# Altium schematic symbol library Landzo.SchLib: 5 symbols
Pins are listed as number, name and electrical type; pins without a type are passive.

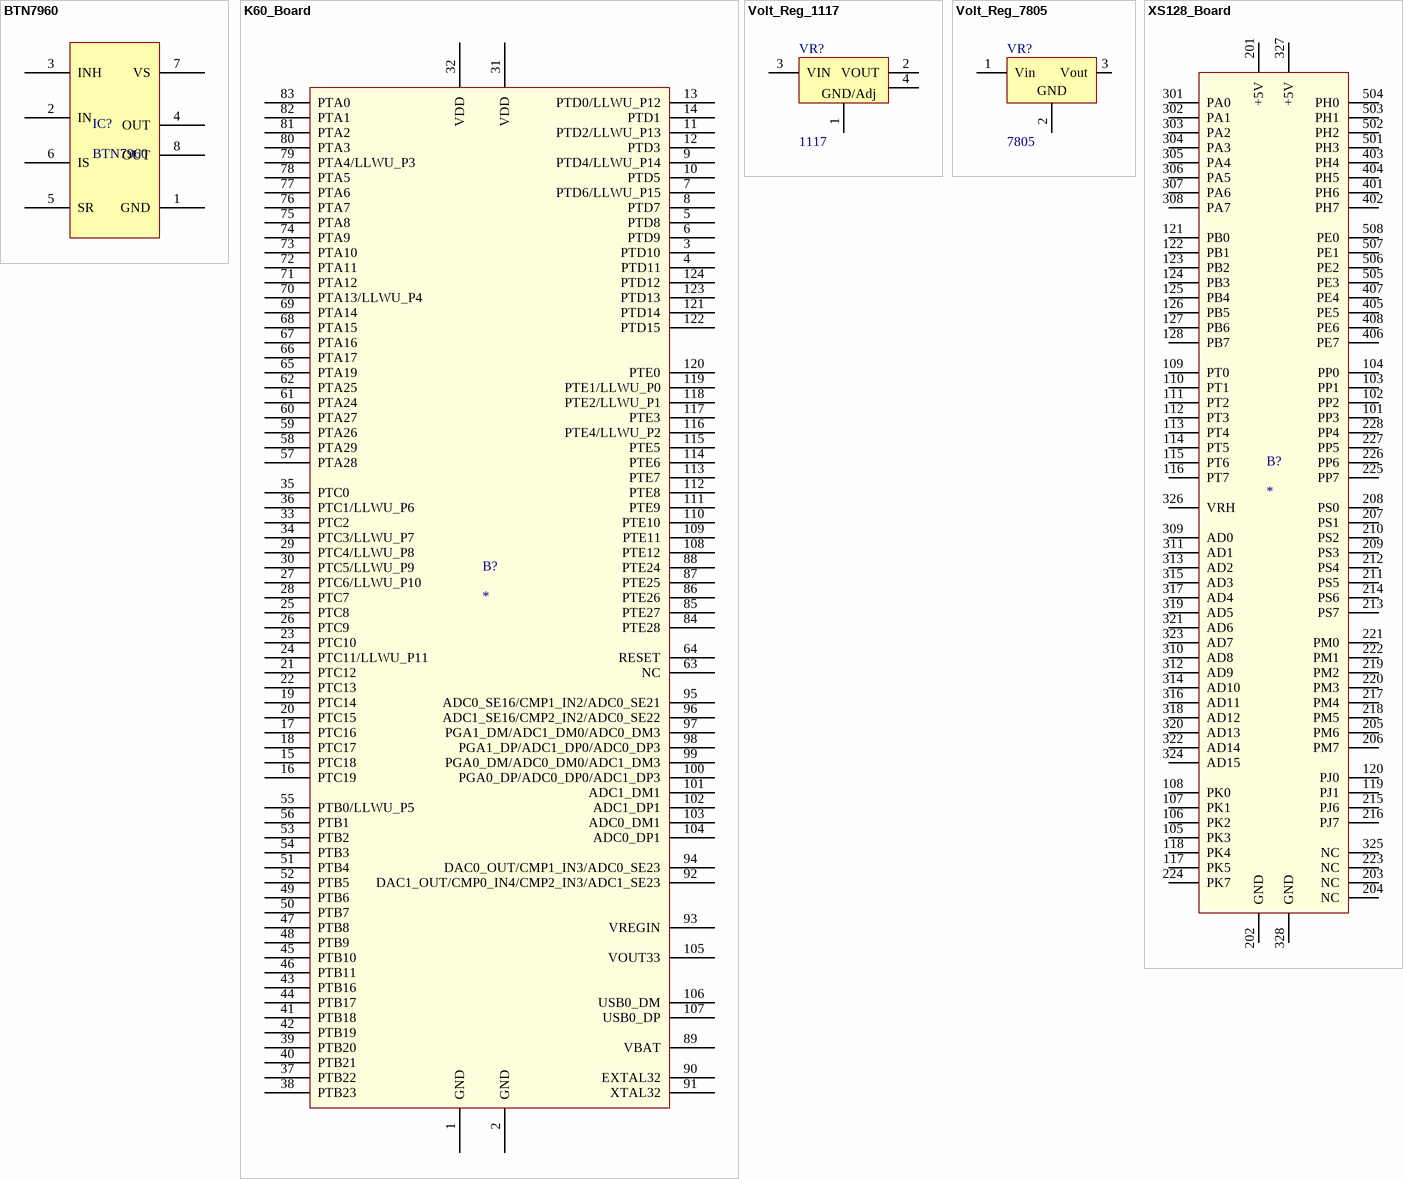
[diagram p0: symbols BTN7960 to XS128_Board]

## BTN7960
designator IC?
pins: 1 GND, 2 IN, 3 INH, 4 OUT, 5 SR, 6 IS, 7 VS, 8 OUT

## K60_Board
designator B?
K60_Board
pins: 1 GND, 2 GND, 3 PTD10, 4 PTD11, 5 PTD8, 6 PTD9, 7 PTD6/LLWU_P15, 8 PTD7, 9 PTD4/LLWU_P14, 10 PTD5, 11 PTD2/LLWU_P13, 12 PTD3, 13 PTD0/LLWU_P12, 14 PTD1, 15 PTC18, 16 PTC19, 17 PTC16, 18 PTC17, 19 PTC14, 20 PTC15, 21 PTC12, 22 PTC13, 23 PTC10, 24 PTC11/LLWU_P11, 25 PTC8, 26 PTC9, 27 PTC6/LLWU_P10, 28 PTC7, 29 PTC4/LLWU_P8, 30 PTC5/LLWU_P9, 31 VDD, 32 VDD, 33 PTC2, 34 PTC3/LLWU_P7, 35 PTC0, 36 PTC1/LLWU_P6, 37 PTB22, 38 PTB23, 39 PTB20, 40 PTB21, 41 PTB18, 42 PTB19, 43 PTB16, 44 PTB17, 45 PTB10, 46 PTB11, 47 PTB8, 48 PTB9, 49 PTB6, 50 PTB7, 51 PTB4, 52 PTB5, 53 PTB2, 54 PTB3, 55 PTB0/LLWU_P5, 56 PTB1, 57 PTA28, 58 PTA29, 59 PTA26, 60 PTA27, 61 PTA24, 62 PTA25, 63 NC, 64 RESET, 65 PTA19, 66 PTA17, 67 PTA16, 68 PTA15, 69 PTA14, 70 PTA13/LLWU_P4, 71 PTA12, 72 PTA11, 73 PTA10, 74 PTA9, 75 PTA8, 76 PTA7, 77 PTA6, 78 PTA5, 79 PTA4/LLWU_P3, 80 PTA3, 81 PTA2, 82 PTA1, 83 PTA0, 84 PTE28, 85 PTE27, 86 PTE26, 87 PTE25, 88 PTE24, 89 VBAT, 90 EXTAL32, 91 XTAL32, 92 DAC1_OUT/CMP0_IN4/CMP2_IN3/ADC1_SE23, 93 VREGIN, 94 DAC0_OUT/CMP1_IN3/ADC0_SE23, 95 ADC0_SE16/CMP1_IN2/ADC0_SE21, 96 ADC1_SE16/CMP2_IN2/ADC0_SE22, 97 PGA1_DM/ADC1_DM0/ADC0_DM3, 98 PGA1_DP/ADC1_DP0/ADC0_DP3, 99 PGA0_DM/ADC0_DM0/ADC1_DM3, 100 PGA0_DP/ADC0_DP0/ADC1_DP3, 101 ADC1_DM1, 102 ADC1_DP1, 103 ADC0_DM1, 104 ADC0_DP1, 105 VOUT33, 106 USB0_DM, 107 USB0_DP, 108 PTE12, 109 PTE11, 110 PTE10, 111 PTE9, 112 PTE8, 113 PTE7, 114 PTE6, 115 PTE5, 116 PTE4/LLWU_P2, 117 PTE3, 118 PTE2/LLWU_P1, 119 PTE1/LLWU_P0, 120 PTE0, 121 PTD14, 122 PTD15, 123 PTD13, 124 PTD12

## Volt_Reg_1117
designator VR?, comment 1117
Voltage Regulator
pins: 1 GND/Adj, 2 VOUT, 3 VIN, 4 VOUT

## Volt_Reg_7805
designator VR?, comment 7805
Voltage Regulator
pins: 1 Vin, 2 GND, 3 Vout

## XS128_Board
designator B?
pins: 101 PP3, 102 PP2, 103 PP1, 104 PP0, 105 PK3, 106 PK2, 107 PK1, 108 PK0, 109 PT0, 110 PT1, 111 PT2, 112 PT3, 113 PT4, 114 PT5, 115 PT6, 116 PT7, 117 PK5, 118 PK4, 119 PJ1, 120 PJ0, 121 PB0, 122 PB1, 123 PB2, 124 PB3, 125 PB4, 126 PB5, 127 PB6, 128 PB7, 201 +5V, 202 GND, 203 NC, 204 NC, 205 PM6, 206 PM7, 207 PS1, 208 PS0, 209 PS3, 210 PS2, 211 PS5, 212 PS4, 213 PS7, 214 PS6, 215 PJ6, 216 PJ7, 217 PM4, 218 PM5, 219 PM2, 220 PM3, 221 PM0, 222 PM1, 223 NC, 224 PK7, 225 PP7, 226 PP6, 227 PP5, 228 PP4, 301 PA0, 302 PA1, 303 PA2, 304 PA3, 305 PA4, 306 PA5, 307 PA6, 308 PA7, 309 AD0, 310 AD8, 311 AD1, 312 AD9, 313 AD2, 314 AD10, 315 AD3, 316 AD11, 317 AD4, 318 AD12, 319 AD5, 320 AD13, 321 AD6, 322 AD14, 323 AD7, 324 AD15, 325 NC, 326 VRH, 327 +5V, 328 GND, 401 PH6, 402 PH7, 403 PH4, 404 PH5, 405 PE5, 406 PE7, 407 PE4, 408 PE6, 501 PH3, 502 PH2, 503 PH1, 504 PH0, 505 PE3, 506 PE2, 507 PE1, 508 PE0